# Altium integrated library 7-215079-6.IntLib: 1 symbol
Pins are listed as number, name and electrical type; pins without a type are passive.

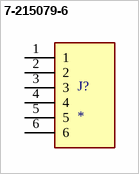
[diagram p0: symbol 7-215079-6]

## 7-215079-6
designator J?
Conn FFC Connector F 6 POS 1.27mm Solder ST Thru-Hole Automotive Box/Carton; MP: 7-215079-6; MF: TE Connectivity; SnapEDA_Link: https://www.snapeda.com/parts/7-215079-6/TE+Connectivity+AMP+Connectors/view-part/?ref=snap; Package: None; Check_prices: https://www.snapeda.com/parts/7-215079-6/TE+Connectivity+AMP+Connectors/view-part/?ref=eda; Purchase-URL: https://pricing.snapeda.com/search/part/7-215079-6/?ref=eda; Digi-Key_Part_Number: A30729TR-ND; Value: *
footprint TE_7-215079-6
pins: 1, 2, 3, 4, 5, 6